# Altium schematic symbol library MSS1038-333MLC.SchLib: 1 symbol
Pins are listed as number, name and electrical type; pins without a type are passive.

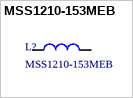
[diagram p0: symbol MSS1210-153MEB]

## MSS1210-153MEB
designator L?
INDUCTOR, PWR, 15UH, 8.7A, 20%,12MHZ; MPN: MSS1038-333MLC; Farnell: 2288211
footprint INDP102100X40N (Precision Wire Wound Inductor, 2-Leads, Body 10,20x10,00mm, IPC Medium Density)
pins: 1, 2